# EAGLE library part J08 (library tidyeagle)
8 Pin Header 0.1" (2.54mm) spacing.
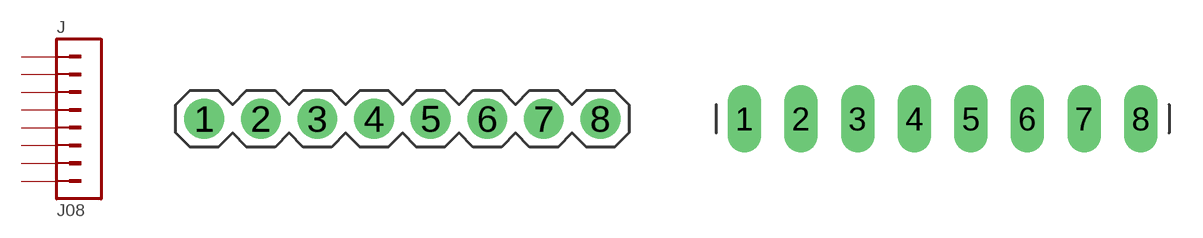
[diagram p11: symbol with the pads of J08; footprints J08, J08-LONG]

Designator prefix J

## J08-ROUND  [J08]
1  1
2  2
3  3
4  4
5  5
6  6
7  7
8  8

## J08-LONG  [J08-LONG]
Pads as for J08

## J08-NOSILK  [J08-NOSILK]
Pads as for J08

## J08-ROUND-POL  [J08-POL]
Pads as for J08

## Footprint J08 (pad centres in mm)
drill 1 pad 1.778: 1 0,0; 2 2.54,0; 3 5.08,0; 4 7.62,0; 5 10.16,0; 6 12.7,0; 7 15.24,0; 8 17.78,0

## Footprint J08-LONG (pad centres in mm)
drill 1 long: 1 0,0; 2 2.54,0; 3 5.08,0; 4 7.62,0; 5 10.16,0; 6 12.7,0; 7 15.24,0; 8 17.78,0

## Footprint J08-NOSILK (pad centres in mm)
drill 1 pad 1.778: 1 0,0; 2 2.54,0; 3 5.08,0; 4 7.62,0; 5 10.16,0; 6 12.7,0; 7 15.24,0; 8 17.78,0

## Footprint J08-POL (pad centres in mm)
drill 1 pad 1.778 square: 1 0,0
drill 1 pad 1.778: 2 2.54,0; 3 5.08,0; 4 7.62,0; 5 10.16,0; 6 12.7,0; 7 15.24,0; 8 17.78,0